# Altium schematic symbol library EG2219.SchLib: 1 symbol
Pins are listed as number, name and electrical type; pins without a type are passive.

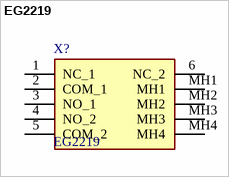
[diagram p0: symbol EG2219]

## EG2219
designator X?
SLIDE, 500mA, 15VDC DPDT, On-On Through Hole, Right Angle; Manufacturer_Name: E-Switch; Geometry.Height: 8.5mm; Mouser Part Number: 612-EG2219; Mouser Price/Stock: https://www.mouser.co.uk/ProductDetail/E-Switch/EG2219?qs=xDsBkp9Lkofjsq7Op0ToJg%3D%3D; Manufacturer_Part_Number: EG2219; Datasheet Link: https://configured-product-images.s3.amazonaws.com/2D/specs/EG2219.pdf
footprint EG2219
pins: 1 NC_1, 2 COM_1, 3 NO_1, 4 NO_2, 5 COM_2, 6 NC_2, MH1, MH2, MH3, MH4